# Altium schematic symbol library 74_Series.SchLib: 11 symbols
Pins are listed as number, name and electrical type; pins without a type are passive.

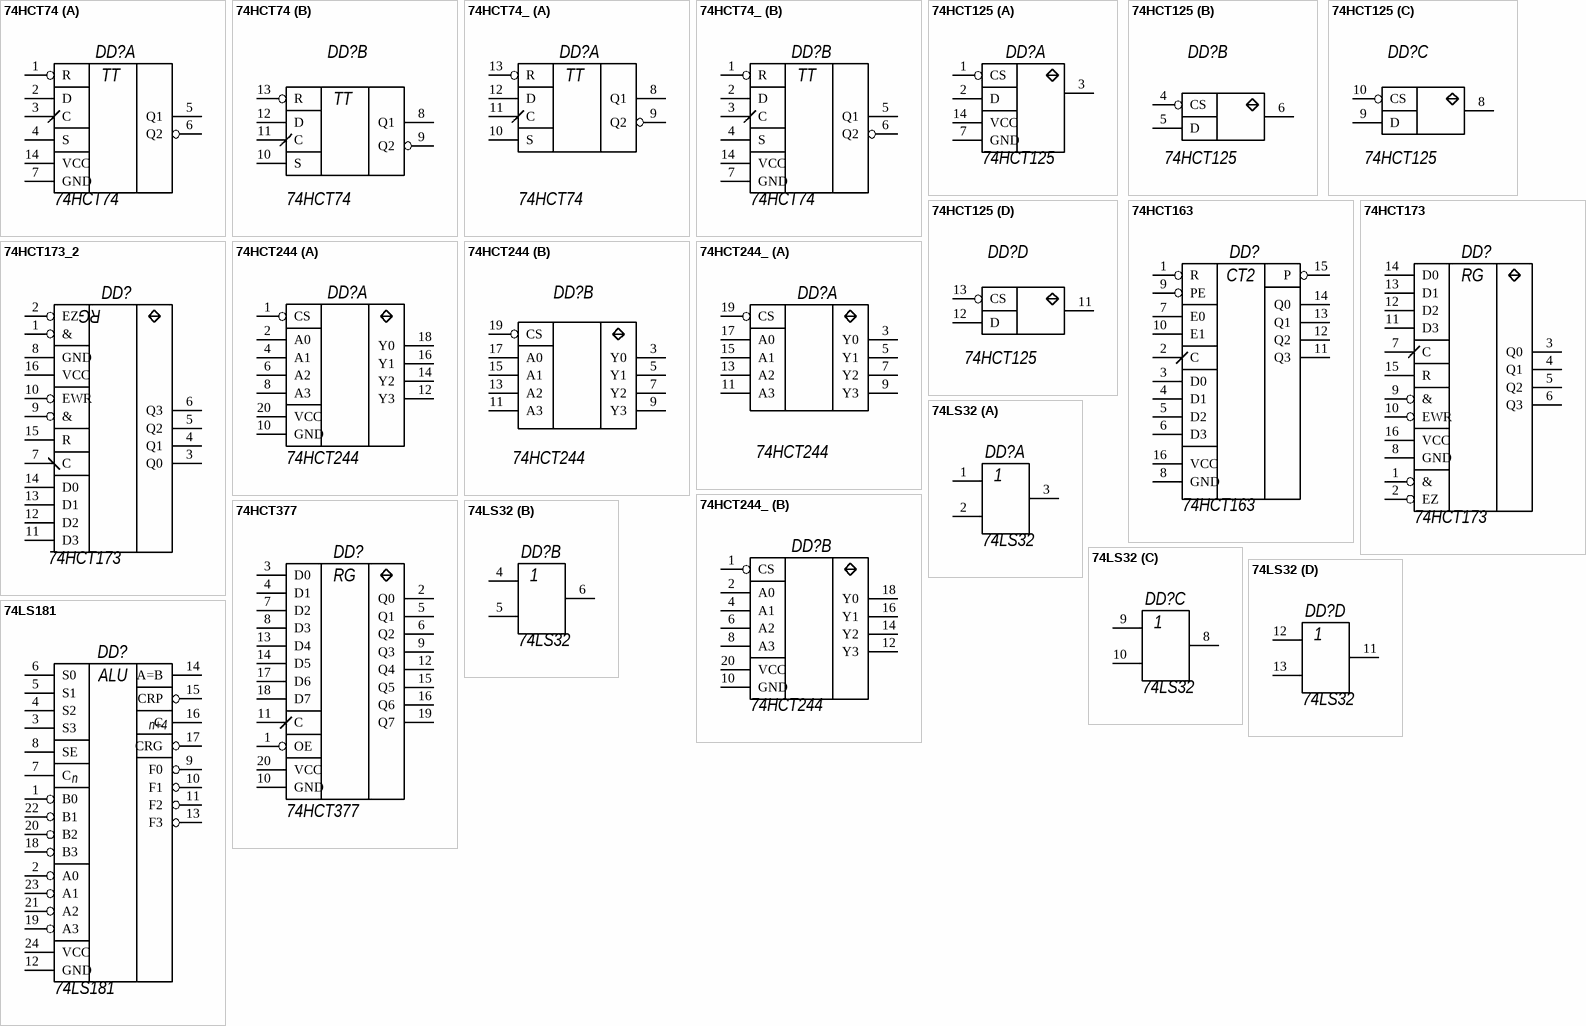
[diagram p0: symbols 74HCT74 to 74LS181]

## 74HCT74
designator DD?
Два D-трирери
footprint SOIC-14
part A pins: 1 R, 2 D, 3 C, 4 S, 5 Q1, 6 Q2, 7 GND, 14 VCC
part B pins: 8 Q1, 9 Q2, 10 S, 11 C, 12 D, 13 R
part A text: TT
part B text: TT

## 74HCT74_
designator DD?, comment 74HCT74
Два D-трирери
footprint SOIC-14
part A pins: 8 Q1, 9 Q2, 10 S, 11 C, 12 D, 13 R
part B pins: 1 R, 2 D, 3 C, 4 S, 5 Q1, 6 Q2, 7 GND, 14 VCC
part A text: TT
part B text: TT

## 74HCT125
designator DD?
4 буферні елем.
footprint SOIC-14
part A pins: 1 CS, 2 D, 3 Q, 7 GND, 14 VCC
part B pins: 4 CS, 5 D, 6 Q
part C pins: 8 Q, 9 D, 10 CS
part D pins: 11 Q, 12 D, 13 CS

## 74HCT163
designator DD?
4-розр. дв. ліч.
footprint M16A_N (16-Pin Small Outline Integrated Circuit 1.27 mm Pitch, IPC Medium Density)
pins: 1 R, 2 C, 3 D0, 4 D1, 5 D2, 6 D3, 7 E0, 8 GND, 9 PE, 10 E1, 11 Q3, 12 Q2, 13 Q1, 14 Q0, 15 P, 16 VCC
text: CT2

## 74HCT173
designator DD?
4-розр. регістр
footprint SOIC-16 (SOIC, 16-Leads, Body 10,40x3,90mm, Pitch 1,27mm, IPC Medium Density)
pins: 1 &, 2 EZ, 3 Q0, 4 Q1, 5 Q2, 6 Q3, 7 C, 8 GND, 9 &, 10 EWR, 11 D3, 12 D2, 13 D1, 14 D0, 15 R, 16 VCC
text: RG

## 74HCT173_2
designator DD?, comment 74HCT173
footprint SOIC-16 (SOIC, 16-Leads, Body 10,40x3,90mm, Pitch 1,27mm, IPC Medium Density)
pins: 1 &, 2 EZ, 3 Q0, 4 Q1, 5 Q2, 6 Q3, 7 C, 8 GND, 9 &, 10 EWR, 11 D3, 12 D2, 13 D1, 14 D0, 15 R, 16 VCC
text: RG

## 74HCT244
designator DD?
Драйвер шини
footprint SOIC-20 (SOIC, 20-Leads, Body 12,80x7,50mm, Pitch 1,27mm, IPC Medium Density)
part A pins: 1 CS, 2 A0, 4 A1, 6 A2, 8 A3, 10 GND, 12 Y3, 14 Y2, 16 Y1, 18 Y0, 20 VCC
part B pins: 3 Y0, 5 Y1, 7 Y2, 9 Y3, 11 A3, 13 A2, 15 A1, 17 A0, 19 CS

## 74HCT244_
designator DD?, comment 74HCT244
Драйвер шини
footprint SOIC-20 (SOIC, 20-Leads, Body 12,80x7,50mm, Pitch 1,27mm, IPC Medium Density)
part A pins: 3 Y0, 5 Y1, 7 Y2, 9 Y3, 11 A3, 13 A2, 15 A1, 17 A0, 19 CS
part B pins: 1 CS, 2 A0, 4 A1, 6 A2, 8 A3, 10 GND, 12 Y3, 14 Y2, 16 Y1, 18 Y0, 20 VCC

## 74HCT377
designator DD?
8-розр. регістр
footprint SOIC-20 (SOIC, 20-Leads, Body 12,80x7,50mm, Pitch 1,27mm, IPC Medium Density)
pins: 1 OE, 2 Q0, 3 D0, 4 D1, 5 Q1, 6 Q2, 7 D2, 8 D3, 9 Q3, 10 GND, 11 C, 12 Q4, 13 D4, 14 D5, 15 Q5, 16 Q6, 17 D6, 18 D7, 19 Q7, 20 VCC
text: RG

## 74LS32
designator DD?
4 елем. 2АБО
footprint D014_N (14-Pin Small Outline Integrated Circuit 1.27 mm Pitch, IPC Medium Density)
part A pins: 1 A, 2 B, 3 Y, 7 GND hidden to GND, 14 VCC hidden to VCC
part B pins: 4 A, 5 B, 6 Y
part C pins: 8 Y, 9 A, 10 B
part D pins: 11 Y, 12 A, 13 B

## 74LS181
designator DD?
Швийкісний ALU
footprint DW024_N (24-Pin Plastic Small Outline Integrated Circuit 1.27 mm Pitch, IPC Medium Density)
pins: 1 B0, 2 A0, 3 S3, 4 S2, 5 S1, 6 S0, 7 C, 8 SE, 9 F0, 10 F1, 11 F2, 12 GND, 13 F3, 14 A=B, 15 CRP, 16 C, 17 CRG, 18 B3, 19 A3, 20 B2, 21 A2, 22 B1, 23 A1, 24 VCC
text: ALU; n+4; n